# EAGLE library part 691329300016 (library WR-TBL Pluggable Connector)
WR-TBL Serie 3293 - 3.81 mm Double Level Vertical Male PCB Header KIND PROPERTIES Pitch 3.81 mm MATERIAL PROPERTIES Insulator Material PA66 Insulator Flammability Rating UL94 V-0 Contact Material Brass Contact Plating Tin GENERAL INFORMATION Operating Temperature -40 up to +105 °C Compliance RoHS ELECTRICAL PROPERTIES IR UL 10 A Working Voltage [UL] 300 V (AC) Withstanding Voltage [cULus] 1600 V (AC) Contact Resistance [cULus] 20 mΩ CERTIFICATION cULus Approval E315414 <https://www.we-online.com/catalog/media/o33282v209%20Family_WR-TBL_6913293000xx.jpg> Details see: https://www.we-online.com/catalog/en/TBL_3_81_3293_DOUBLE_LEVEL_VERTICAL_MALE_PCB_HEADER_6913293000XX/ Updated by Ella Wu 2022-07-25 2022(C) Wurth Elektronik
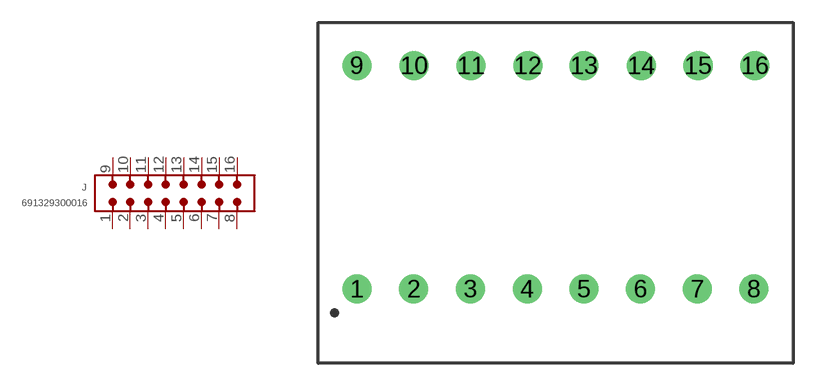
[diagram p19: symbol with the pads of 691329300016; footprint 691329300016]

Designator prefix J

## 691329300016 (DATASHEET-URL: https://www.we-online.com/redexpert/spec/691329300016?ae; IR-UL: 10A; MOUNT: THT; PART-NUMBER: 691329300016; PINS: 16; PITCH: 3.81mm; TYPE: Double Level Vertical; VALUE: 691329300016; WORKING-VOLTAGE-UL: 300V (AC))  [691329300016]
1  1  pas
2  2  pas
3  3  pas
4  4  pas
5  5  pas
6  6  pas
7  7  pas
8  8  pas
9  9  pas
10  10  pas
11  11  pas
12  12  pas
13  13  pas
14  14  pas
15  15  pas
16  16  pas

## Footprint 691329300016 (pad centres in mm)
WR-TBL Serie 3293 - 3.81 mm Double Level Vertical Male PCB Header Max Height = 22mm , Pitch 3.81mm , 16pins
drill 1.3: 1 -13.335,-7.5; 2 -9.525,-7.5; 3 -5.715,-7.5; 4 -1.905,-7.5; 5 1.905,-7.5; 6 5.684,-7.5; 7 9.494,-7.5; 8 13.304,-7.5; 9 -13.335,7.5; 10 -9.494,7.5; 11 -5.684,7.5; 12 -1.874,7.5; 13 1.905,7.5; 14 5.746,7.5; 15 9.556,7.5; 16 13.366,7.5